# EAGLE library part JMP/8P/DIP (library audioint)
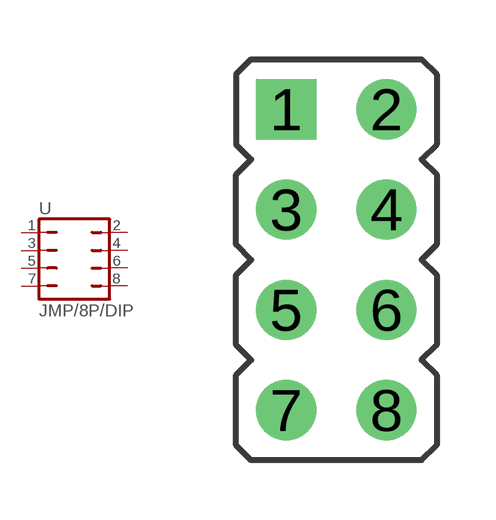
[diagram p17: symbol with the pads of JMP/8P/DIP; footprint JMP/8P/DIP]

Designator prefix -

## JMP/8P/DIP  [JMP/8P/DIP]
1  1  pas
2  2  pas
3  3  pas
4  4  pas
5  5  pas
6  6  pas
7  7  pas
8  8  pas

## Footprint JMP/8P/DIP (pad centres in mm)
drill 0.914 pad 1.524 square: 1 -1.27,3.81
drill 0.914 pad 1.524 round: 2 1.27,3.81; 3 -1.27,1.27; 4 1.27,1.27; 5 -1.27,-1.27; 6 1.27,-1.27; 7 -1.27,-3.81; 8 1.27,-3.81